# EAGLE library part UC3842BD1G (library UC3842BD1G)
Latching PWM for Cycle-By-Cycle Current Limiting; Oscillator Frequency Guaranteed at 250 kHz; Low Startup and Operating Current; Trimmed Oscillator for Precise Frequency Control; Internally Trimmed Reference with Undervoltage Lockout; Undervoltage Lockout with Hysteresis; Automatic Feed Forward Compensation; High Current Totem Pole Output; Current Mode Operation to 500 kHz; Pb-Free Packages are Available Source: Datasheet <https://www.onsemi.com/pub/Collateral/UC3842B-D.PDF>
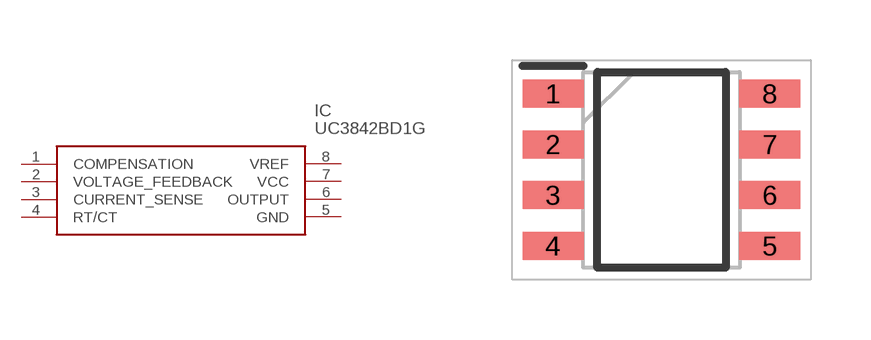
[diagram p0: symbol with the pads of SOIC127P600X175-8N; footprint SOIC127P600X175-8N]

Designator prefix IC

## UC3842BD1G (Arrow_Part_Number: UC3842BD1G; Arrow_Price-Stock: https://www.arrow.com/en/products/uc3842bd1g/on-semiconductor?utm_currency=USD&region=europe; Description: Latching PWM for Cycle-By-Cycle Current Limiting; Oscillator Frequency Guaranteed at 250 kHz; Low Startup and Operating Current; Trimmed Oscillator for Precise Frequency Control; Internally Trimmed Reference with Undervoltage Lockout; Undervoltage Lockout with Hysteresis; Automatic Feed Forward Compensation; High Current Totem Pole Output; Current Mode Operation to 500 kHz; Pb-Free Packages are Available; Height: 1.75mm; Manufacturer_Name: onsemi; Manufacturer_Part_Number: UC3842BD1G; Mouser_Part_Number: 863-UC3842BD1G; Mouser_Price-Stock: https://www.mouser.co.uk/ProductDetail/onsemi/UC3842BD1G?qs=xZq1yRCsb1fulNC3cmc0Yg%3D%3D)  [SOIC127P600X175-8N]
1  COMPENSATION
2  VOLTAGE_FEEDBACK
3  CURRENT_SENSE
4  RT/CT
5  GND  pwr
6  OUTPUT  out
7  VCC  pwr
8  VREF  in

## Footprint SOIC127P600X175-8N (pad centres in mm)
SOIC-8 NB CAST 751-07
smd 1.525 x 0.7: 1 -2.712,1.905; 2 -2.712,0.635; 3 -2.712,-0.635; 4 -2.712,-1.905; 5 2.712,-1.905; 6 2.712,-0.635; 7 2.712,0.635; 8 2.712,1.905